# EAGLE library part TYPE-C-Receptacle-2.0 (library CH585M)
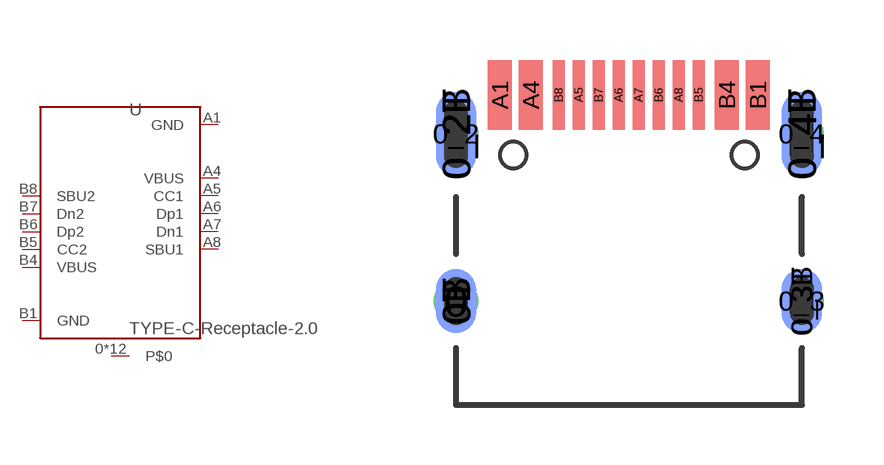
[diagram p2: symbol with the pads of TYPE-C-Receptacle-2.0; footprint TYPE-C-Receptacle-2.0]

Designator prefix U

## TYPE-C-Receptacle-2.0-TYPE-C-Receptacle-2.0  [TYPE-C-Receptacle-2.0]
0  P$0
0_2  P$0
0_2B  P$0
0_2T  P$0
0_3  P$0
0_3B  P$0
0_3T  P$0
0_4  P$0
0_4B  P$0
0_4T  P$0
0B  P$0
0T  P$0
A1  GND
A4  VBUS
A5  CC1
A6  Dp1
A7  Dn1
A8  SBU1
B1  GND
B4  VBUS
B5  CC2
B6  Dp2
B7  Dn2
B8  SBU2

## Footprint TYPE-C-Receptacle-2.0 (pad centres in mm)
drill 0.6 pad 1 round: 0 -4.32,-5.15; 0_2 -4.32,-0.97; 0_3 4.32,-5.15; 0_4 4.32,-0.97
smd 1 x 2.1 bottom: 0_2B -4.32,-0.97; 0_4B 4.32,-0.97
smd 1 x 2.1: 0_2T -4.32,-0.97; 0_4T 4.32,-0.97
smd 1 x 1.6 bottom: 0_3B 4.32,-5.15; 0B -4.32,-5.15
smd 1 x 1.6: 0_3T 4.32,-5.15; 0T -4.32,-5.15
smd 0.6 x 1.75: A1 -3.225,0; A4 -2.45,0; B1 3.225,0; B4 2.45,0
smd 0.3 x 1.75: A5 -1.25,0; A6 -0.25,0; A7 0.25,0; A8 1.25,0; B5 1.75,0; B6 0.75,0; B7 -0.75,0; B8 -1.75,0